# Altium schematic symbol library axsem_displays_v1-1.SCHLIB: 2 symbols
Pins are listed as number, name and electrical type; pins without a type are passive.

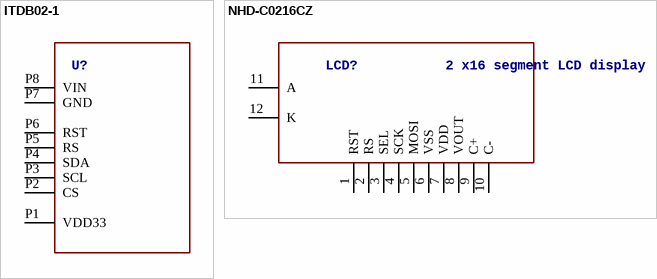
[diagram p0: symbols ITDB02-1 to NHD-C0216CZ]

## ITDB02-1
designator U?
footprint ITDB02-1
pins: P1 VDD33 (power), P2 CS, P3 SCL, P4 SDA, P5 RS, P6 RST, P7 GND (power), P8 VIN (power)

## NHD-C0216CZ
designator LCD?, comment 2 x16 segment LCD display
footprint NHD-C0216CZ
pins: 1 RST, 2 RS, 3 SEL, 4 SCK, 5 MOSI, 6 VSS (power), 7 VDD (power), 8 VOUT (power), 9 C+, 10 C-, 11 A, 12 K